# Altium schematic symbol library SSD1306_096_OLED.SchLib: 1 symbol
Pins are listed as number, name and electrical type; pins without a type are passive.

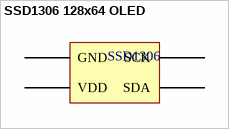
[diagram p0: symbol SSD1306 128x64 OLED]

## SSD1306 128x64 OLED
designator SSD1306  (value not drawn)
0.96" SSD1306 128x64 Pixel OLED
footprint SSD1306_096_OLED (SSD1306 128x64 0.96" OLED)
pins: GND, SCK, SDA, VDD